# Altium schematic symbol library CONN-SPE_91228-3001_carte_SIM.SchLib: 1 symbol
Pins are listed as number, name and electrical type; pins without a type are passive.

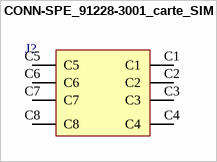
[diagram p0: symbol CONN-SPE_91228-3001_carte_SIM]

## CONN-SPE_91228-3001_carte_SIM
designator J?  (value not drawn)
pins: C1, C2, C3, C4, C5, C6, C7, C8